# Altium integrated library Dallas Memory Asynchronous FIFO.IntLib: 59 symbols (part 2 of 2)
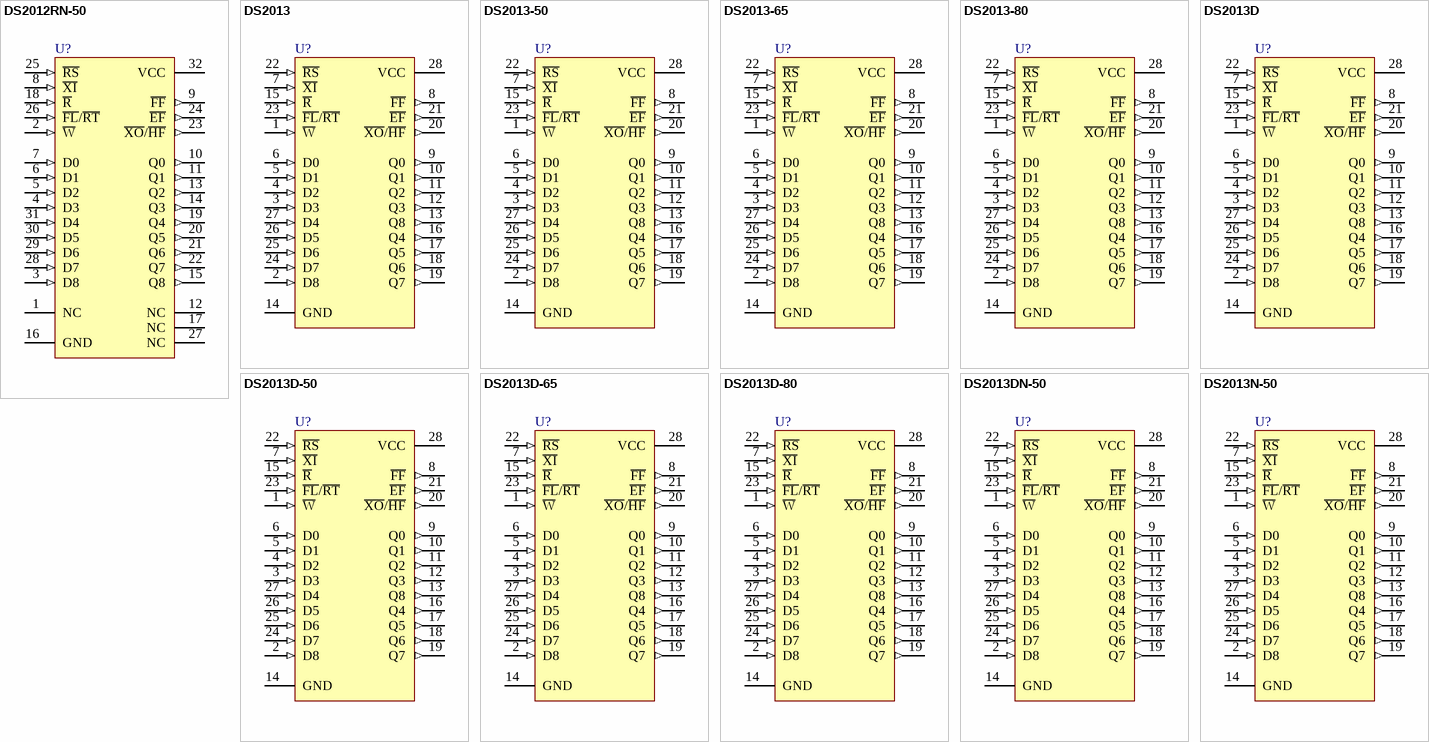
[diagram p3: symbols DS2012RN-50 to DS2013N-50]

## DS2013D
designator U?
8192 X 9 FIFO Chip; Published: 13-Oct-2000; LatestRevisionDate: 17-Jul-2002; LatestRevisionNote: Re-released for DXP Platform.; DatasheetVersion: 13-Jan-1992; PackageVersion: 1999; PackageReference: DIP28N; Publisher: Altium Limited; PackageDescription: DIP, 28-Pin, Row Spacing 7.62 mm, Pitch 2.54 mm; ComponentLink1Description: Manufacturer Link; ComponentLink1URL: http://www.maxim-ic.com/
footprint DIP28N (DIP, 28-Leads, Row Spacing 7.62mm, Pitch 2.54mm, Body 34.48x7.17mm)
pins: 1 ~{W} (in), 2 D8 (in), 3 D3 (in), 4 D2 (in), 5 D1 (in), 6 D0 (in), 7 ~{XI} (in), 8 ~{FF} (out), 9 Q0 (out), 10 Q1 (out), 11 Q2 (out), 12 Q3 (out), 13 Q8 (out), 14 GND (power), 15 ~{R} (in), 16 Q4 (out), 17 Q5 (out), 18 Q6 (out), 19 Q7 (out), 20 ~{XO}/~{HF} (out), 21 ~{EF} (out), 22 ~{RS} (in), 23 ~{FL}/~{RT} (in), 24 D7 (in), 25 D6 (in), 26 D5 (in), 27 D4 (in), 28 VCC (power)

## DS2013D-50
designator U?
8192 X 9 FIFO Chip; Published: 13-Oct-2000; LatestRevisionDate: 17-Jul-2002; LatestRevisionNote: Re-released for DXP Platform.; DatasheetVersion: 13-Jan-1992; PackageVersion: 1999; PackageReference: DIP28N; Publisher: Altium Limited; PackageDescription: DIP, 28-Pin, Row Spacing 7.62 mm, Pitch 2.54 mm; ComponentLink1Description: Manufacturer Link; ComponentLink1URL: http://www.maxim-ic.com/
footprint DIP28N (DIP, 28-Leads, Row Spacing 7.62mm, Pitch 2.54mm, Body 34.48x7.17mm)
pins: 1 ~{W} (in), 2 D8 (in), 3 D3 (in), 4 D2 (in), 5 D1 (in), 6 D0 (in), 7 ~{XI} (in), 8 ~{FF} (out), 9 Q0 (out), 10 Q1 (out), 11 Q2 (out), 12 Q3 (out), 13 Q8 (out), 14 GND (power), 15 ~{R} (in), 16 Q4 (out), 17 Q5 (out), 18 Q6 (out), 19 Q7 (out), 20 ~{XO}/~{HF} (out), 21 ~{EF} (out), 22 ~{RS} (in), 23 ~{FL}/~{RT} (in), 24 D7 (in), 25 D6 (in), 26 D5 (in), 27 D4 (in), 28 VCC (power)

## DS2013D-65
designator U?
8192 X 9 FIFO Chip; Published: 13-Oct-2000; LatestRevisionDate: 17-Jul-2002; LatestRevisionNote: Re-released for DXP Platform.; DatasheetVersion: 13-Jan-1992; PackageVersion: 1999; PackageReference: DIP28N; Publisher: Altium Limited; PackageDescription: DIP, 28-Pin, Row Spacing 7.62 mm, Pitch 2.54 mm; ComponentLink1Description: Manufacturer Link; ComponentLink1URL: http://www.maxim-ic.com/
footprint DIP28N (DIP, 28-Leads, Row Spacing 7.62mm, Pitch 2.54mm, Body 34.48x7.17mm)
pins: 1 ~{W} (in), 2 D8 (in), 3 D3 (in), 4 D2 (in), 5 D1 (in), 6 D0 (in), 7 ~{XI} (in), 8 ~{FF} (out), 9 Q0 (out), 10 Q1 (out), 11 Q2 (out), 12 Q3 (out), 13 Q8 (out), 14 GND (power), 15 ~{R} (in), 16 Q4 (out), 17 Q5 (out), 18 Q6 (out), 19 Q7 (out), 20 ~{XO}/~{HF} (out), 21 ~{EF} (out), 22 ~{RS} (in), 23 ~{FL}/~{RT} (in), 24 D7 (in), 25 D6 (in), 26 D5 (in), 27 D4 (in), 28 VCC (power)

## DS2013D-80
designator U?
8192 X 9 FIFO Chip; Published: 13-Oct-2000; LatestRevisionDate: 17-Jul-2002; LatestRevisionNote: Re-released for DXP Platform.; DatasheetVersion: 13-Jan-1992; PackageVersion: 1999; PackageReference: DIP28N; Publisher: Altium Limited; PackageDescription: DIP, 28-Pin, Row Spacing 7.62 mm, Pitch 2.54 mm; ComponentLink1Description: Manufacturer Link; ComponentLink1URL: http://www.maxim-ic.com/
footprint DIP28N (DIP, 28-Leads, Row Spacing 7.62mm, Pitch 2.54mm, Body 34.48x7.17mm)
pins: 1 ~{W} (in), 2 D8 (in), 3 D3 (in), 4 D2 (in), 5 D1 (in), 6 D0 (in), 7 ~{XI} (in), 8 ~{FF} (out), 9 Q0 (out), 10 Q1 (out), 11 Q2 (out), 12 Q3 (out), 13 Q8 (out), 14 GND (power), 15 ~{R} (in), 16 Q4 (out), 17 Q5 (out), 18 Q6 (out), 19 Q7 (out), 20 ~{XO}/~{HF} (out), 21 ~{EF} (out), 22 ~{RS} (in), 23 ~{FL}/~{RT} (in), 24 D7 (in), 25 D6 (in), 26 D5 (in), 27 D4 (in), 28 VCC (power)

## DS2013DN-50
designator U?
8192 X 9 FIFO Chip; Published: 13-Oct-2000; LatestRevisionDate: 17-Jul-2002; LatestRevisionNote: Re-released for DXP Platform.; DatasheetVersion: 13-Jan-1992; PackageVersion: 1999; PackageReference: DIP28N; Publisher: Altium Limited; PackageDescription: DIP, 28-Pin, Row Spacing 7.62 mm, Pitch 2.54 mm; ComponentLink1Description: Manufacturer Link; ComponentLink1URL: http://www.maxim-ic.com/
footprint DIP28N (DIP, 28-Leads, Row Spacing 7.62mm, Pitch 2.54mm, Body 34.48x7.17mm)
pins: 1 ~{W} (in), 2 D8 (in), 3 D3 (in), 4 D2 (in), 5 D1 (in), 6 D0 (in), 7 ~{XI} (in), 8 ~{FF} (out), 9 Q0 (out), 10 Q1 (out), 11 Q2 (out), 12 Q3 (out), 13 Q8 (out), 14 GND (power), 15 ~{R} (in), 16 Q4 (out), 17 Q5 (out), 18 Q6 (out), 19 Q7 (out), 20 ~{XO}/~{HF} (out), 21 ~{EF} (out), 22 ~{RS} (in), 23 ~{FL}/~{RT} (in), 24 D7 (in), 25 D6 (in), 26 D5 (in), 27 D4 (in), 28 VCC (power)

## DS2013N-50
designator U?
8192 X 9 FIFO Chip; Published: 13-Oct-2000; LatestRevisionDate: 17-Jul-2002; LatestRevisionNote: Re-released for DXP Platform.; DatasheetVersion: 13-Jan-1992; PackageVersion: 1999; PackageReference: DIP28W; Publisher: Altium Limited; PackageDescription: DIP, 28-Pin, Row Spacing 15.24 mm, Pitch 2.54 mm; ComponentLink1Description: Manufacturer Link; ComponentLink1URL: http://www.maxim-ic.com/
footprint DIP28W (DIP, 28-Leads, Row Spacing 15.24mm, Pitch 2.54mm, Body 37.02x13.72mm)
pins: 1 ~{W} (in), 2 D8 (in), 3 D3 (in), 4 D2 (in), 5 D1 (in), 6 D0 (in), 7 ~{XI} (in), 8 ~{FF} (out), 9 Q0 (out), 10 Q1 (out), 11 Q2 (out), 12 Q3 (out), 13 Q8 (out), 14 GND (power), 15 ~{R} (in), 16 Q4 (out), 17 Q5 (out), 18 Q6 (out), 19 Q7 (out), 20 ~{XO}/~{HF} (out), 21 ~{EF} (out), 22 ~{RS} (in), 23 ~{FL}/~{RT} (in), 24 D7 (in), 25 D6 (in), 26 D5 (in), 27 D4 (in), 28 VCC (power)